# EAGLE library part LT3845 (library PowerProducts)
LT-Spice library generated with : ltspice.ulp from: D:/Program Files (x86)/LTC/LTspiceIV/lib/sym/PowerProducts/LT3956*.asy at 07.10.2012 16:45:42
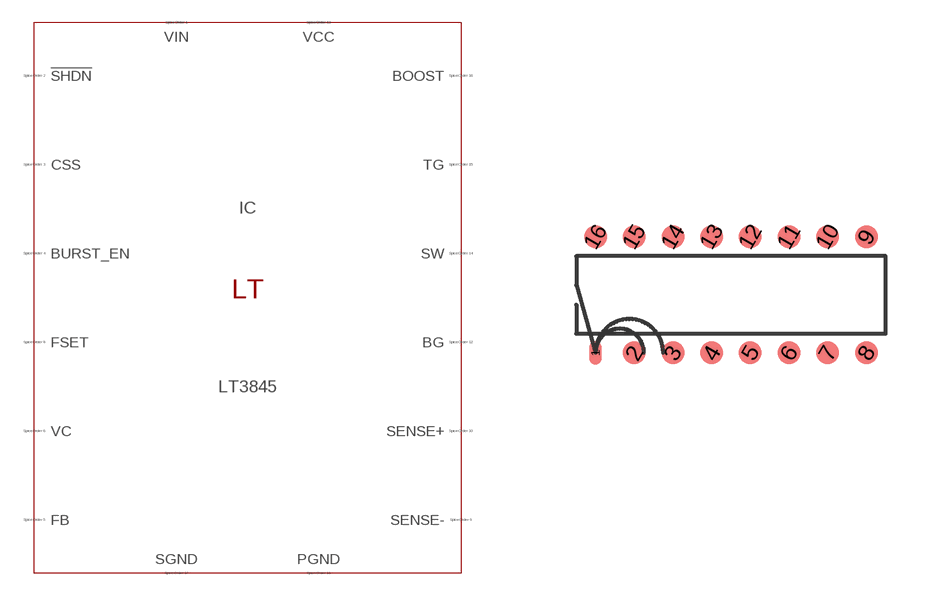
[diagram p107: symbol with the pads of PDIP16(N); footprint PDIP16(N)]

Designator prefix IC

## LT3845 (SPICEMODEL: LT3845.sub; SPICEPREFIX: X; VALUE2: LT3845)  [PDIP16(N)]
1  FB  pas
2  VC  pas
3  FSET  pas
4  SGND  pas
5  SENSE-  pas
6  SENSE+  pas
7  PGND  pas
8  BG  pas
9  VCC  pas
10  SW  pas
11  TG  pas
12  BOOST  pas
13  VIN  pas
14  !SHDN  pas
15  CSS  pas
16  BURST_EN  pas

## Footprint PDIP16(N) (pad centres in mm)
Package generated from: PDIP16(N).asc (!PADS-POWERPCB-V9.3-BASIC! DESIGN DATABASE ASCII FILE 1.0) with :import-pads-powerpcb-v5.ulp Version 1.0.1 at 04.10.2012 14:11:20
smd 0.31 x 0.581: 1 0,0
smd 0.581 x 0.581 rotated 240: 2 0.968,0; 3 1.935,0; 4 2.903,0; 5 3.871,0; 6 4.839,0; 7 5.806,0; 8 6.774,0; 9 6.774,2.903; 10 5.806,2.903; 11 4.839,2.903; 12 3.871,2.903; 13 2.903,2.903; 14 1.935,2.903; 15 0.968,2.903; 16 0,2.903